# EAGLE library part JTAG_CONNECTOR (library harrison)
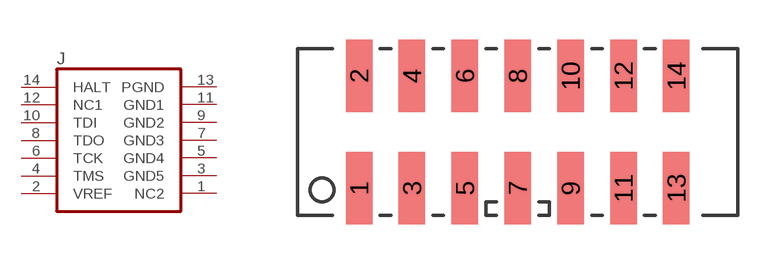
[diagram p47: symbol with the pads of MOLEX_87832_1420; footprint MOLEX_87832_1420]

Designator prefix J

## JTAG_CONNECTOR  [MOLEX_87832_1420]
1  NC2  nc
2  VREF  in
3  GND5  nc
4  TMS  in
5  GND4  nc
6  TCK  in
7  GND3  nc
8  TDO  in
9  GND2  nc
10  TDI  in
11  GND1  nc
12  NC1  pwr
13  PGND  pwr
14  HALT  pwr

## Footprint MOLEX_87832_1420 (pad centres in mm)
smd 1 x 2.75: 1 -6,-2.125; 2 -6,2.125; 3 -4,-2.125; 4 -4,2.125; 5 -2,-2.125; 6 -2,2.125; 7 0,-2.125; 8 0,2.125; 9 2,-2.125; 10 2,2.125; 11 4,-2.125; 12 4,2.125; 13 6,-2.125; 14 6,2.125